# Altium footprint library TTL_to_RS485_Conv.PcbLib: 1 footprints
Each footprint in its own frame and in the unit in brackets; x right, y up, seen from the top. Pads: shape width x height; smd on the part's side, far side on the other; paste and mask are expansions set on the pad; w line width, h text height; cw(c..) or ccw(c..) is an arc to the next point about the centre after c.
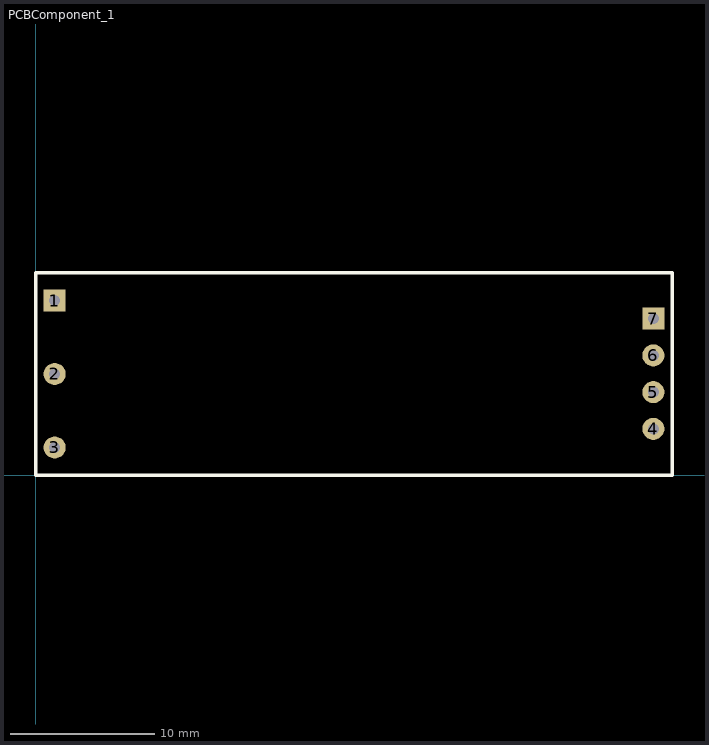
[diagram p0: the footprint, top view; thin cyan lines are the x and y axes]

## PCBComponent_1 [mil]
pads (7):
  rect 60x60 hole 30: 1(51.3,475.59) 7(1680.98,426.22)
  round 60 hole 30: 2(51.3,275.59) 3(51.3,75.59) 4(1680.98,126.22) 5(1680.98,226.22) 6(1680.98,326.22)
Top Overlay:
  lines w10: 0,0 1732.28,0 1732.28,551.18 0,551.18 0,0